# EAGLE library part IS25LQ016B (library ICs)
3V QUAD SERIAL FLASH MEMORY MULTI-I/O SPI 16Mbit
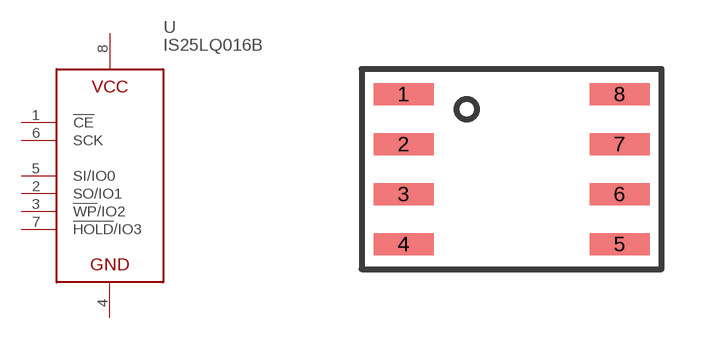
[diagram p96: symbol with the pads of SO8; footprint SO8]

Designator prefix U

## IS25LQ016B-JNLE (DIGIKEY: 706-1334-ND; PRICE_PER: 0.70; VALUE: IS25LQ016B)  [SO8]
1  !CE
2  SO/IO1
3  !WP!/IO2
4  GND
5  SI/IO0
6  SCK
7  !HOLD!/IO3
8  VCC

## Footprint SO8 (pad centres in mm)
smd 1.5 x 0.55: 1 -2.7,1.875; 2 -2.7,0.625; 3 -2.7,-0.625; 4 -2.7,-1.875; 5 2.7,-1.875; 6 2.7,-0.625; 7 2.7,0.625; 8 2.7,1.875